# Altium schematic symbol library POE_PD_CTRL.SchLib: 2 symbols
Pins are listed as number, name and electrical type; pins without a type are passive.

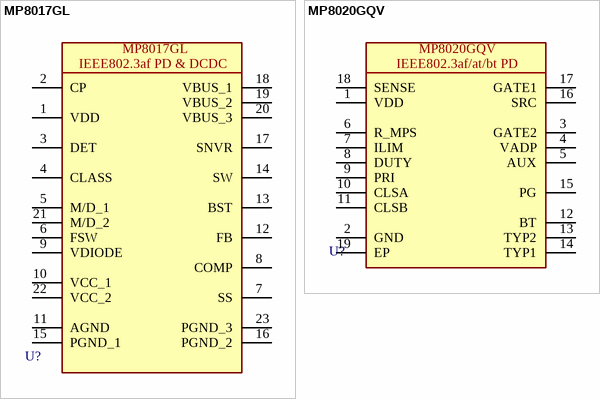
[diagram p0: symbols MP8017GL to MP8020GQV]

## MP8017GL
designator U?
IEEE 802.3af-Compliant PoE PD Solution with Primary- or Secondary-Side Regulation Active-Clamp Flyback Converter; Manufacturer Part Number 1: MP8017GL-Z; Manufacturer 1: Monolithic Power Systems Inc.; Supplier  Part Number 1: C27058932; Supplier  1: JLCPCB; Package: QFN-19(3x4); Value: *
footprint MP8017GL (IEEE 802.3af-Compliant PoE PD Solution with Primary- or Secondary-Side Regulation Active-Clamp Flyback Converter)
pins: 1 VDD, 2 CP, 3 DET, 4 CLASS, 5 M/D_1, 6 FSW, 7 SS, 8 COMP, 9 VDIODE, 10 VCC_1, 11 AGND, 12 FB, 13 BST, 14 SW, 15 PGND_1, 16 PGND_2, 17 SNVR, 18 VBUS_1, 19 VBUS_2, 20 VBUS_3, 21 M/D_2, 22 VCC_2, 23 PGND_3
text: IEEE802.3af PD & DCDC

## MP8020GQV
designator U?
Power Over Ethernet Controller 1 Channel 802.3at (PoE+), 802.3af (PoE), 802.3bt 18-QFN (3x5); Manufacturer Part Number 1: MP8020GQV-Z; Manufacturer 1: Monolithic Power Systems Inc.; Supplier  Part Number 1: C5676305; Supplier  1: JLCPCB; Package: QFN-18(3x5); Value: *
footprint MP8020GQV (Power Over Ethernet Controller 1 Channel 802.3at (PoE+), 802.3af (PoE), 802.3bt 18-QFN (3x5))
pins: 1 VDD, 2 GND, 3 GATE2, 4 VADP, 5 AUX, 6 R_MPS, 7 ILIM, 8 DUTY, 9 PRI, 10 CLSA, 11 CLSB, 12 BT, 13 TYP2, 14 TYP1, 15 PG, 16 SRC, 17 GATE1, 18 SENSE, 19 EP
text: IEEE802.3af/at/bt PD